# Altium footprint library SWITCHCRAFT_SN37A12A.PcbLib: 1 footprints
Each footprint in its own frame and in the unit in brackets; x right, y up, seen from the top. Pads: shape width x height; smd on the part's side, far side on the other; paste and mask are expansions set on the pad; w line width, h text height; cw(c..) or ccw(c..) is an arc to the next point about the centre after c.
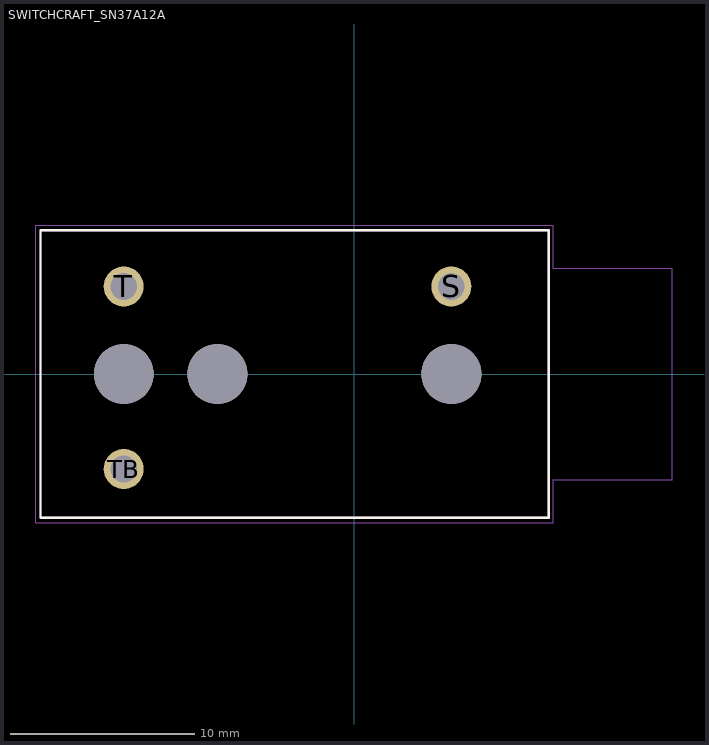
[diagram p0: the footprint, top view; thin cyan lines are the x and y axes]

## SWITCHCRAFT_SN37A12A [mil]
pads (6):
  round 85.5 hole 57: S(208,187) T(-492,187) TB(-492,-203)
  round 128 hole 128 unplated: ""(-492,0) ""(-292,0) ""(208,0)
Top Overlay:
  lines w5: -670,-307.5 -670,307.5 416,307.5 416,216.5 416,-216.5 416,-307.5 -670,-307.5
Top Solder:
  circle w74: c208,0 r37
  circle w74: c-292,0 r37
  circle w74: c-492,0 r37
Bottom Solder:
  circle w74: c-292,0 r37
  circle w74: c-492,0 r37
  circle w74: c208,0 r37
Mechanical 13:
  lines w5: -670,-307.5 -670,307.5 416,307.5 416,216.5 416,-216.5 416,-307.5 -670,-307.5
Mechanical 15:
  lines w1.97: -679.84,-317.34 425.84,-317.34 425.84,-226.34 679.84,-226.34 679.84,226.34 425.84,226.34 425.84,317.34 -679.84,317.34 -679.84,-317.34